# EAGLE library part FPC-28WAY (library pimoroni-fpc)
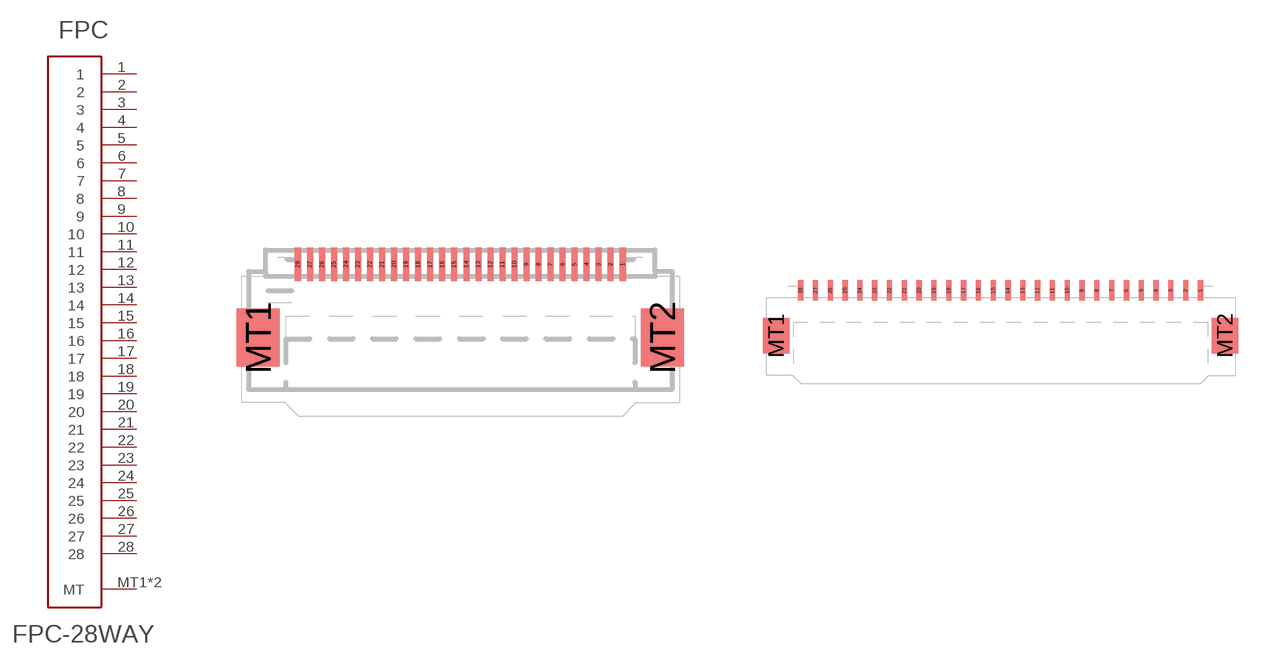
[diagram p23: symbol with the pads of FPC-0.5MM-28WAY; footprints FPC-0.5MM-28WAY, FPC-1.0MM-28WAY]

Designator prefix FPC

## FPC-28WAY0.5  [FPC-0.5MM-28WAY]
1  1
2  2
3  3
4  4
5  5
6  6
7  7
8  8
9  9
10  10
11  11
12  12
13  13
14  14
15  15
16  16
17  17
18  18
19  19
20  20
21  21
22  22
23  23
24  24
25  25
26  26
27  27
28  28
MT1  MT
MT2  MT

## FPC-28WAY1.0  [FPC-1.0MM-28WAY]
Pads as for FPC-0.5MM-28WAY

## Footprint FPC-0.5MM-28WAY (pad centres in mm)
smd 0.25 x 1.4: 1 6.75,0.7; 2 6.25,0.7; 3 5.75,0.7; 4 5.25,0.7; 5 4.75,0.7; 6 4.25,0.7; 7 3.75,0.7; 8 3.25,0.7; 9 2.75,0.7; 10 2.25,0.7; 11 1.75,0.7; 12 1.25,0.7; 13 0.75,0.7; 14 0.25,0.7; 15 -0.25,0.7; 16 -0.75,0.7; 17 -1.25,0.7; 18 -1.75,0.7; 19 -2.25,0.7; 20 -2.75,0.7; 21 -3.25,0.7; 22 -3.75,0.7; 23 -4.25,0.7; 24 -4.75,0.7; 25 -5.25,0.7; 26 -5.75,0.7; 27 -6.25,0.7; 28 -6.75,0.7
smd 1.8 x 2.4: MT1 -8.4,-2.35; MT2 8.4,-2.35

## Footprint FPC-1.0MM-28WAY (pad centres in mm)
smd 0.35 x 1.4: 1 13.5,0.7; 2 12.5,0.7; 3 11.5,0.7; 4 10.5,0.7; 5 9.5,0.7; 6 8.5,0.7; 7 7.5,0.7; 8 6.5,0.7; 9 5.5,0.7; 10 4.5,0.7; 11 3.5,0.7; 12 2.5,0.7; 13 1.5,0.7; 14 0.5,0.7; 15 -0.5,0.7; 16 -1.5,0.7; 17 -2.5,0.7; 18 -3.5,0.7; 19 -4.5,0.7; 20 -5.5,0.7; 21 -6.5,0.7; 22 -7.5,0.7; 23 -8.5,0.7; 24 -9.5,0.7; 25 -10.5,0.7; 26 -11.5,0.7; 27 -12.5,0.7; 28 -13.5,0.7
smd 1.8 x 2.4: MT1 -15.15,-2.35; MT2 15.15,-2.35